# EAGLE library part FPC-13WAY (library pimoroni-fpc)
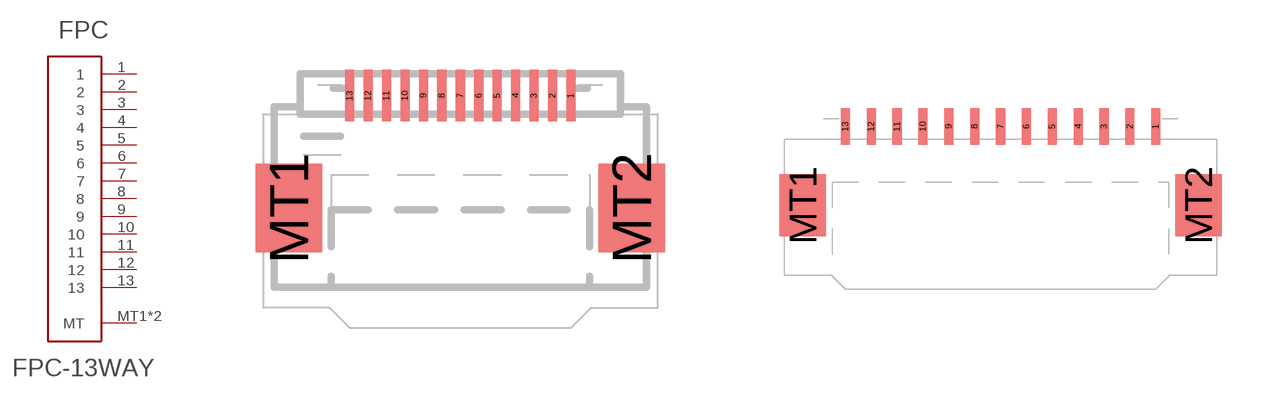
[diagram p8: symbol with the pads of FPC-0.5MM-13WAY; footprints FPC-0.5MM-13WAY, FPC-1.0MM-13WAY]

Designator prefix FPC

## FPC-13WAY0.5  [FPC-0.5MM-13WAY]
1  1
2  2
3  3
4  4
5  5
6  6
7  7
8  8
9  9
10  10
11  11
12  12
13  13
MT1  MT
MT2  MT

## FPC-13WAY1.0  [FPC-1.0MM-13WAY]
Pads as for FPC-0.5MM-13WAY

## Footprint FPC-0.5MM-13WAY (pad centres in mm)
smd 0.25 x 1.4: 1 3,0.7; 2 2.5,0.7; 3 2,0.7; 4 1.5,0.7; 5 1,0.7; 6 0.5,0.7; 7 0,0.7; 8 -0.5,0.7; 9 -1,0.7; 10 -1.5,0.7; 11 -2,0.7; 12 -2.5,0.7; 13 -3,0.7
smd 1.8 x 2.4: MT1 -4.65,-2.35; MT2 4.65,-2.35

## Footprint FPC-1.0MM-13WAY (pad centres in mm)
smd 0.35 x 1.4: 1 6,0.7; 2 5,0.7; 3 4,0.7; 4 3,0.7; 5 2,0.7; 6 1,0.7; 7 0,0.7; 8 -1,0.7; 9 -2,0.7; 10 -3,0.7; 11 -4,0.7; 12 -5,0.7; 13 -6,0.7
smd 1.8 x 2.4: MT1 -7.65,-2.35; MT2 7.65,-2.35